# Altium footprint library pcb_lib_own_.PcbLib: 14 footprints
Each footprint in its own frame and in the unit in brackets; x right, y up, seen from the top. Pads: shape width x height; smd on the part's side, far side on the other; paste and mask are expansions set on the pad; w line width, h text height; cw(c..) or ccw(c..) is an arc to the next point about the centre after c.
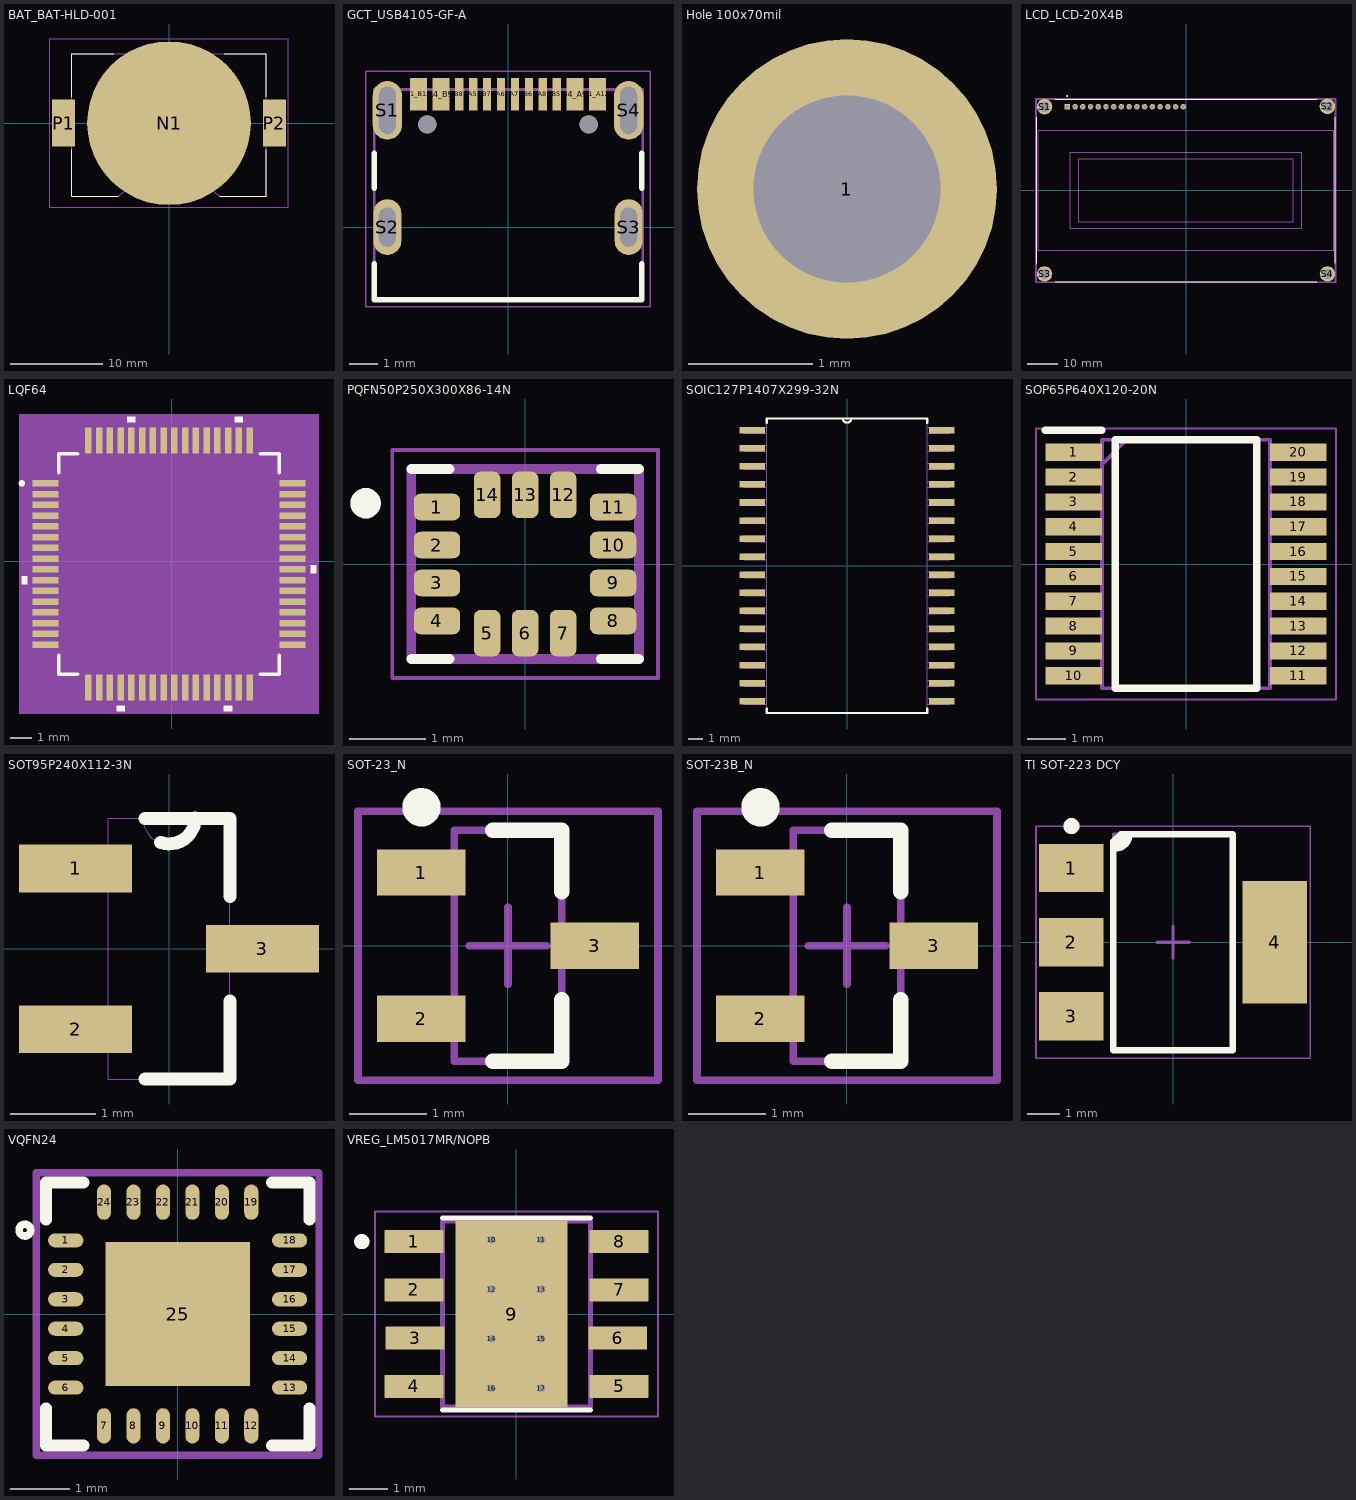
[diagram p0: the footprints below, top view; thin cyan lines are the x and y axes]

## BAT_BAT-HLD-001 [mm]
pads (3):
  round 17.8 smd paste-10: N1(0,0)
  rect 2.5x5.1 smd: P1(-11.45,0) P2(11.45,0)
Top Overlay:
  lines w0.127: -10.55,-2.87 -10.55,-7.95 -5.5,-7.95 ; -10.55,2.87 -10.55,7.55 -6,7.55 ; 5.5,-7.95 10.55,-7.95 10.55,-2.87 ; 6,7.55 10.55,7.55 10.55,2.87
Mechanical 13:
  lines w0.127: -5.5,-7.95 -10.55,-7.95 -10.55,7.55 10.55,7.55 10.55,-7.95 5.5,-7.95 ; -5.495,-7.946 cw(c0,-14.731) 0,-6 cw(c0,-14.731) 5.495,-7.946
Mechanical 15:
  lines w0.05: -12.95,-9.15 12.95,-9.15 12.95,9.15 -12.95,9.15 -12.95,-9.15
3D body "CR2032_closed_battery_BH.step": height 3.7, standoff -0.16, extent -11.879,-10.257 11.371,9.743

## GCT_USB4105-GF-A [mm]
pads (18):
  rect 0.6x1.15 smd: A1_B12(-3.2,4.755) A4_B9(-2.4,4.755) B1_A12(3.2,4.755) B4_A9(2.4,4.755)
  rect 0.3x1.15 smd: A5(-1.25,4.755) A6(-0.25,4.755) A7(0.25,4.755) A8(1.25,4.755) B5(1.75,4.755) B6(0.75,4.755) B7(-0.75,4.755) B8(-1.75,4.755)
  oval 1.05x2.1 hole 0.6 slot 1.7 at 90 deg: S1(-4.32,4.18) S4(4.32,4.18)
  oval 1x2 hole 0.6 slot 1.4 at 90 deg: S2(-4.32,0) S3(4.32,0)
  round 0.65 hole 0.65 unplated: ""(-2.89,3.68) ""(2.89,3.68)
Top Overlay:
  lines w0.2: -4.79,-1.32 -4.79,-2.6 4.79,-2.6 4.79,-1.32 ; -4.79,1.4 -4.79,2.65 ; 4.79,1.4 4.79,2.65
Mechanical 13:
  lines w0.1: -4.79,-2.6 -4.79,4.93 4.826,4.93 4.826,-2.6 -4.79,-2.6
Mechanical 15:
  lines w0.05: -5.1,-2.85 5.1,-2.85 5.1,5.58 -5.1,5.58 -5.1,-2.85
3D body "USB4105-GF-A--3DModel-STEP-56544.STEP": height 3.31, standoff -0.85, extent -4.79,-2.6 4.79,5.11

## Hole 100x70mil [mm]
pads (1):
  round 2.4 hole 1.5: 1(-118.237,-4.953)

## LCD_LCD-20X4B [mm]
pads (20):
  rect 1.8x1.8 hole 1.2: 1(-39,27.46)
  round 1.8 hole 1.2: 2(-36.46,27.46) 3(-33.92,27.46) 4(-31.38,27.46) 5(-28.84,27.46) 6(-26.3,27.46) 7(-23.76,27.46) 8(-21.22,27.46) 9(-18.68,27.46) 10(-16.14,27.46) 11(-13.6,27.46) 12(-11.06,27.46) 13(-8.52,27.46) 14(-5.98,27.46) 15(-3.44,27.46) 16(-0.9,27.46)
  round 5.1 hole 3.4: S1(-46.5,27.5) S2(46.482,27.559) S3(-46.5,-27.5) S4(46.5,-27.5)
Top Overlay:
  circle w0.3: c-39,31 r0.15
  lines w0.127: -49,-24 -49,24 ; -43,-30 43,-30 ; -43,30 43,30 ; 49,-24 49,24
Mechanical 13:
  circle w0.3: c-39,31 r0.15
  lines w0.127: -49,-30 49,-30 49,30 -49,30 -49,-30 ; -48.5,-19.75 -48.5,19.75 48.5,19.75 48.5,-19.75 -48.5,-19.75 ; -38,-12.5 38,-12.5 38,12.5 -38,12.5 -38,-12.5 ; -35.2,-10.4 -35.2,10.4 35.2,10.4 35.2,-10.4 -35.2,-10.4
Mechanical 15:
  lines w0.05: -49.3,-30.3 49.3,-30.3 49.3,30.3 -49.3,30.3 -49.3,-30.3
3D body "LCD20x4_HD44780-01_Blue.stp": height 10.88, standoff -2.77, extent -48.781,-29.845 49.289,30.099

## LQF64 [mil]
pads (64):
  rect 47x12 smd paste+0 mask+0: 1(-231.38,142.64) 2(-231.38,122.95) 3(-231.38,103.27) 4(-231.38,83.58) 5(-231.38,63.9) 6(-231.38,44.21) 7(-231.38,24.53) 8(-231.38,4.84) 9(-231.38,-14.84) 10(-231.38,-34.53) 11(-231.38,-54.21) 12(-231.38,-73.9) 13(-231.38,-93.58) 14(-231.38,-113.27) 15(-231.38,-132.95) 16(-231.38,-152.64) 33(221.38,-152.64) 34(221.38,-132.95) 35(221.38,-113.27) 36(221.38,-93.58) 37(221.38,-73.9) 38(221.38,-54.21) 39(221.38,-34.53) 40(221.38,-14.84) 41(221.38,4.84) 42(221.38,24.53) 43(221.38,44.21) 44(221.38,63.9) 45(221.38,83.58) 46(221.38,103.27) 47(221.38,122.95) 48(221.38,142.64)
  rect 12x47 smd paste+0 mask+0: 17(-152.64,-231.38) 18(-132.95,-231.38) 19(-113.27,-231.38) 20(-93.58,-231.38) 21(-73.9,-231.38) 22(-54.21,-231.38) 23(-34.53,-231.38) 24(-14.84,-231.38) 25(4.84,-231.38) 26(24.53,-231.38) 27(44.21,-231.38) 28(63.9,-231.38) 29(83.58,-231.38) 30(103.27,-231.38) 31(122.95,-231.38) 32(142.64,-231.38) 49(142.64,221.38) 50(122.95,221.38) 51(103.27,221.38) 52(83.58,221.38) 53(63.9,221.38) 54(44.21,221.38) 55(24.53,221.38) 56(4.84,221.38) 57(-14.84,221.38) 58(-34.53,221.38) 59(-54.21,221.38) 60(-73.9,221.38) 61(-93.58,221.38) 62(-113.27,221.38) 63(-132.95,221.38) 64(-152.64,221.38)
Top Overlay:
  circle w6: c-274.72,142.64 r3
  region: -66.4,254.88 -81.4,254.88 -81.4,264.88 -66.4,264.88
  region: 130.45,254.88 115.45,254.88 115.45,264.88 130.45,264.88
  region: 254.88,-7.34 264.88,-7.34 264.88,-22.34 254.88,-22.34
  region: 110.77,-264.88 95.77,-264.88 95.77,-274.88 110.77,-274.88
  region: -86.08,-264.88 -101.08,-264.88 -101.08,-274.88 -86.08,-274.88
  region: -264.88,-27.03 -274.88,-27.03 -274.88,-42.03 -264.88,-42.03
  lines w6: -207,-171.71 -207,-207 -171.71,-207 ; -207,161.71 -207,197 -171.71,197 ; 161.71,-207 197,-207 197,-171.71 ; 161.71,197 197,197 197,161.71
Mechanical 5:
  region: 269.88,-279.88 -279.88,-279.88 -279.88,269.88 269.88,269.88
Mechanical 13:
  circle w0: c-182.88,142.64 r3
  lines w1: -202,142 -152,192 ; -202,-202 -202,192 192,192 192,-202 -202,-202
Mechanical 15:
  region: -172.64,-212 -212,-212 -212,-172.64 -274.88,-172.64 -274.88,162.64 -212,162.64 -212,202 -172.64,202 -172.64,264.88 162.64,264.88 162.64,202 202,202 202,162.64 264.88,162.64 264.88,-172.64 202,-172.64 202,-212 162.64,-212 162.64,-274.88 -172.64,-274.88
  lines w6: -274.88,-172.64 -274.88,162.64 -212,162.64 -212,202 -172.64,202 -172.64,264.88 162.64,264.88 162.64,202 202,202 202,162.64 264.88,162.64 264.88,-172.64 202,-172.64 202,-212 162.64,-212 162.64,-274.88 -172.64,-274.88 -172.64,-212 -212,-212 -212,-172.64 -274.88,-172.64
3D body "LQFP64-10x10mm.step": height 63.11, standoff 0, extent -241.1,-241.1 231.1,231.1

## PQFN50P250X300X86-14N [mm]
pads (14):
  rrect50% 0.61x0.35 smd: 1(-1.16,0.75) 2(-1.16,0.25) 3(-1.16,-0.25) 4(-1.16,-0.75) 8(1.16,-0.75) 9(1.16,-0.25) 10(1.16,0.25) 11(1.16,0.75)
  rrect50% 0.35x0.61 smd: 5(-0.5,-0.91) 6(0,-0.91) 7(0.5,-0.91) 12(0.5,0.91) 13(0,0.91) 14(-0.5,0.91)
Top Overlay:
  circle w0.2: c-2.1,0.8 r0.1
  lines w0.127: -1.5,-1.25 -0.995,-1.25 ; -1.5,1.25 -0.995,1.25 ; 0.995,-1.25 1.5,-1.25 ; 0.995,1.25 1.5,1.25
Mechanical 13:
  circle w0.2: c-2.1,0.8 r0.1
  lines w0.127: -1.5,-1.25 -1.5,1.25 1.5,1.25 1.5,-1.25 -1.5,-1.25
Mechanical 15:
  lines w0.05: -1.75,-1.5 1.75,-1.5 1.75,1.5 -1.75,1.5 -1.75,-1.5
3D body "step_temp.STEP": height 0.86, standoff 0, extent -1.5,-1.25 1.5,1.25

## SOIC127P1407X299-32N [mil]
pads (32):
  rect 71x18 smd: 1(-262,375) 2(-262,325) 3(-262,275) 4(-262,225) 5(-262,175) 6(-262,125) 7(-262,75) 8(-262,25) 9(-262,-25) 10(-262,-75) 11(-262,-125) 12(-262,-175) 13(-262,-225) 14(-262,-275) 15(-262,-325) 16(-262,-375) 17(262,-375) 18(262,-325) 19(262,-275) 20(262,-225) 21(262,-175) 22(262,-125) 23(262,-75) 24(262,-25) 25(262,25) 26(262,75) 27(262,125) 28(262,175) 29(262,225) 30(262,275) 31(262,325) 32(262,375)
Top Overlay:
  lines w6: -222,-396 -222,-408 222,-408 222,-396 ; -222,396 -222,408 -12,408 ; 222,396 222,408 12,408 ; -12,408 ccw(c0,408) 12,408 ; -12,408 12,408
Mechanical 13:
  lines w0: -12,408 ccw(c0,408) 12,408 ; -12,408 12,408 ; -12,408 -222,408 -222,-408 222,-408 222,408 12,408 ; -284,-383 -284,-367 -222,-367 -222,-383 -284,-383 ; -284,-333 -284,-317 -222,-317 -222,-333 -284,-333 ; -284,-283 -284,-267 -222,-267 -222,-283 -284,-283 ; -284,-233 -284,-217 -222,-217 -222,-233 -284,-233 ; -284,-183 -284,-167 -222,-167 -222,-183 -284,-183 ; -284,-133 -284,-117 -222,-117 -222,-133 -284,-133 ; -284,-83 -284,-67 -222,-67 -222,-83 -284,-83 ; -284,-33 -284,-17 -222,-17 -222,-33 -284,-33 ; -284,17 -284,33 -222,33 -222,17 -284,17 ; -284,67 -284,83 -222,83 -222,67 -284,67 ; -284,117 -284,133 -222,133 -222,117 -284,117 ; -284,167 -284,183 -222,183 -222,167 -284,167 ; -284,217 -284,233 -222,233 -222,217 -284,217 ; -284,267 -284,283 -222,283 -222,267 -284,267 ; -284,317 -284,333 -222,333 -222,317 -284,317 ; -284,367 -284,383 -222,383 -222,367 -284,367 ; 222,-383 222,-367 284,-367 284,-383 222,-383 ; 222,-333 222,-317 284,-317 284,-333 222,-333 ; 222,-283 222,-267 284,-267 284,-283 222,-283 ; 222,-233 222,-217 284,-217 284,-233 222,-233 ; 222,-183 222,-167 284,-167 284,-183 222,-183 ; 222,-133 222,-117 284,-117 284,-133 222,-133 ; 222,-83 222,-67 284,-67 284,-83 222,-83 ; 222,-33 222,-17 284,-17 284,-33 222,-33 ; 222,17 222,33 284,33 284,17 222,17 ; 222,67 222,83 284,83 284,67 222,67 ; 222,117 222,133 284,133 284,117 222,117 ; 222,167 222,183 284,183 284,167 222,167 ; 222,217 222,233 284,233 284,217 222,217 ; 222,267 222,283 284,283 284,267 222,267 ; 222,317 222,333 284,333 284,317 222,317 ; 222,367 222,383 284,383 284,367 222,367
3D body "AS6C1008-55SIN.stp": height 117.99, standoff 0, extent -282.5,-408.46 272.5,408.46

## SOP65P640X120-20N [mm]
pads (20):
  rect 1.475x0.45 smd: 1(-2.938,2.925) 2(-2.938,2.275) 3(-2.938,1.625) 4(-2.938,0.975) 5(-2.938,0.325) 6(-2.938,-0.325) 7(-2.938,-0.975) 8(-2.938,-1.625) 9(-2.938,-2.275) 10(-2.938,-2.925) 11(2.938,-2.925) 12(2.938,-2.275) 13(2.938,-1.625) 14(2.938,-0.975) 15(2.938,-0.325) 16(2.938,0.325) 17(2.938,0.975) 18(2.938,1.625) 19(2.938,2.275) 20(2.938,2.925)
Top Overlay:
  lines w0.2: -3.675,3.5 -2.2,3.5 ; -1.85,-3.25 1.85,-3.25 1.85,3.25 -1.85,3.25 -1.85,-3.25
Mechanical 13:
  lines w0.1: -2.2,2.6 -1.55,3.25 ; -2.2,-3.25 2.2,-3.25 2.2,3.25 -2.2,3.25 -2.2,-3.25
Mechanical 15:
  lines w0.05: -3.925,-3.55 3.925,-3.55 3.925,3.55 -3.925,3.55 -3.925,-3.55
3D body "PCF8574PWR.stp": height 1.13, standoff 0, extent -3.2,-3.25 3.2,3.25

## SOT95P240X112-3N [mil]
pads (3):
  rect 52x22 smd: 1(-43,37) 2(-43,-37) 3(43,0)
Top Overlay:
  lines w6: -11,-60 28,-60 28,-24 ; -11,60 12,60 28,60 28,24 ; -3.9,48.96 ccw(c0.15,60.1) 12,60.1
Mechanical 13:
  lines w0: -28,-47 -52,-47 -52,-28 -28,-28 ; -28,-47 -28,-28 ; -28,-47 -28,-60 28,-60 28,-10 ; -28,-28 -28,28 ; -28,28 -52,28 -52,47 -28,47 ; -28,28 -28,47 ; -28,47 -28,60 -12,60 ; -12,60 ccw(c0,60) 12,60 ; -12,60 12,60 ; 12,60 28,60 28,10 ; 28,-10 52,-10 52,10 28,10 ; 28,-10 28,10
3D body "IRLML6344TRPBF.STEP": height 44.09, standoff 0, extent -54.41,-57.48 44.41,57.48

## SOT-23_N [mm] "SOT23, 3-Leads, Body 2.9x1.3mm, Pitch 0.95mm, Lead Span 2.5mm, IPC Medium Density"
height 1.1
pads (3):
  rect 1.15x0.6 smd: 1(-1.125,0.95) 2(-1.125,-0.95) 3(1.125,0)
Top Overlay:
  circle w0.25: c-1.125,1.8 r0.125
  lines w0.2: -0.2,-1.5 0.7,-1.5 0.7,-0.7 ; -0.2,1.5 0.7,1.5 0.7,0.7
Mechanical 13:
  lines w0.1: -0.7,-1.5 0.7,-1.5 0.7,1.5 -0.7,1.5 -0.7,-1.5
Mechanical 15:
  lines w0.1: -0.5,0 0.5,0 ; 0,-0.5 0,0.5 ; -1.95,-1.75 1.95,-1.75 1.95,1.75 -1.95,1.75 -1.95,-1.75
3D body: height 1.1, standoff 0, extent -0.7,-1.5 0.7,1.5

## SOT-23B_N [mm] "SOT23, 3-Leads, Body 2.9x1.3mm, Pitch 0.95mm, Lead Span 2.4mm, IPC Medium Density"
height 1.14
pads (3):
  rect 1.15x0.6 smd: 1(-1.125,0.95) 2(-1.125,-0.95) 3(1.125,0)
Top Overlay:
  circle w0.25: c-1.125,1.8 r0.125
  lines w0.2: -0.2,-1.5 0.7,-1.5 0.7,-0.7 ; -0.2,1.5 0.7,1.5 0.7,0.7
Mechanical 13:
  lines w0.1: -0.7,-1.5 0.7,-1.5 0.7,1.5 -0.7,1.5 -0.7,-1.5
Mechanical 15:
  lines w0.1: -0.5,0 0.5,0 ; 0,-0.5 0,0.5 ; -1.95,-1.75 1.95,-1.75 1.95,1.75 -1.95,1.75 -1.95,-1.75
3D body: height 1.14, standoff 0, extent -0.7,-1.5 0.7,1.5

## TI SOT-223 DCY [mm] "SOT223, 4-Leads, Body 6.50x7.00mm (avg), Pitch 2.30mm, IPC Medium Density"
height 1.8
pads (4):
  rect 2x1.5 smd: 1(-3.15,2.3) 2(-3.15,0) 3(-3.15,-2.3)
  rect 2x3.8 smd: 4(3.15,0)
Top Overlay:
  circle w0.25: c-3.15,3.6 r0.125
  region: -1.65,3.275 -1.35,3.35 -1.35,3.2 -1.65,2.9 -1.85,2.9
  lines w0.2: -1.85,2.9 -1.8,2.9 ccw(c-1.8,3.35) -1.35,3.35 ; -1.85,-3.35 -1.85,3.125 -1.625,3.35 1.85,3.35 1.85,-3.35 -1.85,-3.35
Mechanical 13:
  lines w0.1: -1.85,-3.35 1.85,-3.35 1.85,3.35 -1.85,3.35 -1.85,-3.35
Mechanical 15:
  lines w0.05: -4.25,-3.6 4.25,-3.6 4.25,3.6 -4.25,3.6 -4.25,-3.6
  lines w0.1: -0.5,0 0.5,0 ; 0,-0.5 0,0.5
3D body "SOT-223.STEP": height 1.8, standoff 0, extent -3.516,-3.25 3.5,3.25

## VQFN24 [mm]
pads (25):
  oval 0.6x0.24 smd: 1(-1.9,1.25) 2(-1.9,0.75) 3(-1.9,0.25) 4(-1.9,-0.25) 5(-1.9,-0.75) 6(-1.9,-1.25) 13(1.9,-1.25) 14(1.9,-0.75) 15(1.9,-0.25) 16(1.9,0.25) 17(1.9,0.75) 18(1.9,1.25)
  oval 0.24x0.6 smd: 7(-1.25,-1.9) 8(-0.75,-1.9) 9(-0.25,-1.9) 10(0.25,-1.9) 11(0.75,-1.9) 12(1.25,-1.9) 19(1.25,1.9) 20(0.75,1.9) 21(0.25,1.9) 22(-0.25,1.9) 23(-0.75,1.9) 24(-1.25,1.9)
  rect 2.45x2.45 smd: 25(0,0)
Top Overlay:
  circle w0.127: c-2.594,1.424 r0.1
  lines w0.203: -2.235,-1.6 -2.235,-2.235 -1.6,-2.235 ; -2.235,1.6 -2.235,2.235 -1.6,2.235 ; 1.6,-2.235 2.235,-2.235 2.235,-1.6 ; 1.6,2.235 2.235,2.235 2.235,1.6
Mechanical 15:
  lines w0.127: -2.4,-2.4 -2.4,2.4 2.4,2.4 2.4,-2.4 -2.4,-2.4
3D body "step_temp.STEP": height 1, standoff 0, extent -2,-2.032 2,1.968

## VREG_LM5017MR/NOPB [mm]
pads (17):
  rrect5% 1.55x0.6 smd mask+0: 1(-2.7,1.905) 2(-2.7,0.635) 3(-2.667,-0.635) 4(-2.7,-1.905) 5(2.7,-1.905) 6(2.667,-0.635) 7(2.7,0.635) 8(2.7,1.905)
  rect 2.95x4.9 smd paste-3 mask+0: 9(-0.127,0)
  round 0.3 hole 0.2: 10(-0.65,1.95) 11(0.65,1.95) 12(-0.65,0.65) 13(0.65,0.65) 14(-0.65,-0.65) 15(0.65,-0.65) 16(-0.65,-1.95) 17(0.65,-1.95)
Top Overlay:
  circle w0.2: c-4.07,1.905 r0.1
  lines w0.127: -1.95,-2.525 1.95,-2.525 ; -1.95,2.525 1.95,2.525
Top Paste:
  region: 1.355,-1.7 -1.355,-1.7 -1.355,1.7 1.355,1.7
Top Solder:
  drawing of 9 lines, arcs and shapes, not listed
Mechanical 13:
  circle w0.2: c-4.07,1.905 r0.1
  lines w0.127: -1.95,-2.45 -1.95,2.45 1.95,2.45 1.95,-2.45 -1.95,-2.45
Mechanical 15:
  lines w0.05: -3.725,-2.7 -3.725,2.7 3.725,2.7 3.725,-2.7 -3.725,-2.7
3D body: height 1.7, standoff 0, extent -3.127,-2.45 2.873,2.45